# Altium schematic symbol library ind-0805.SchLib: 1 symbol
Pins are listed as number, name and electrical type; pins without a type are passive.

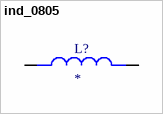
[diagram p0: symbol ind_0805]

## ind_0805
designator L?
MF: {'manufacturer': u'Abracon'}; MP: ASMCI-0805-4R7M-T; Package: None; Availability: Unavailable; Value: *; Price: None
footprint IND_ASMCI-0805-4R7M-T
pins: 1, 2